# EAGLE library part TLC59208F (library spectrometer)
TLC59208F 8-Bit Fm+ I2C Bus LED Driver
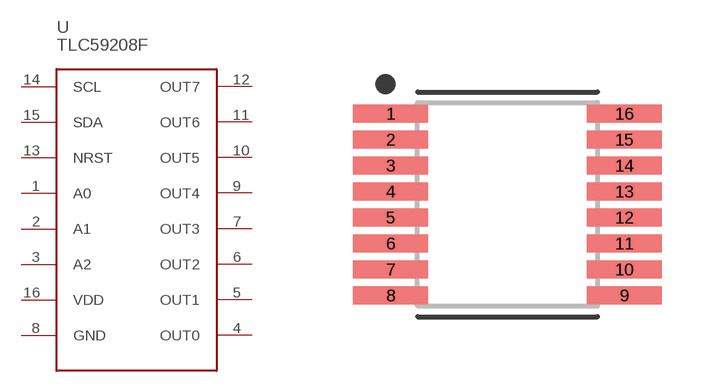
[diagram p4: symbol with the pads of SOP65P640X120-16; footprint SOP65P640X120-16]

Designator prefix U

## TLC59208FTSSOP-16  [SOP65P640X120-16]
1  A0
2  A1
3  A2
4  OUT0
5  OUT1
6  OUT2
7  OUT3
8  GND
9  OUT4
10  OUT5
11  OUT6
12  OUT7
13  NRST
14  SCL
15  SDA
16  VDD

## Footprint SOP65P640X120-16 (pad centres in mm)
16-SOP, 0.65 mm pitch, 6.40 mm span, 5.00 X 4.40 X 1.20 mm body 16-pin SOP package with 0.65 mm pitch, 6.40 mm span with body size 5.00 X 4.40 X 1.20 mm
smd 1.872 x 0.447: 1 -2.922,2.275; 2 -2.922,1.625; 3 -2.922,0.975; 4 -2.922,0.325; 5 -2.922,-0.325; 6 -2.922,-0.975; 7 -2.922,-1.625; 8 -2.922,-2.275; 9 2.922,-2.275; 10 2.922,-1.625; 11 2.922,-0.975; 12 2.922,-0.325; 13 2.922,0.325; 14 2.922,0.975; 15 2.922,1.625; 16 2.922,2.275